# EAGLE library part EN5330 (library IC)
Enpirion Voltage Mode Synchronous Buck PWN DC-DC Converter
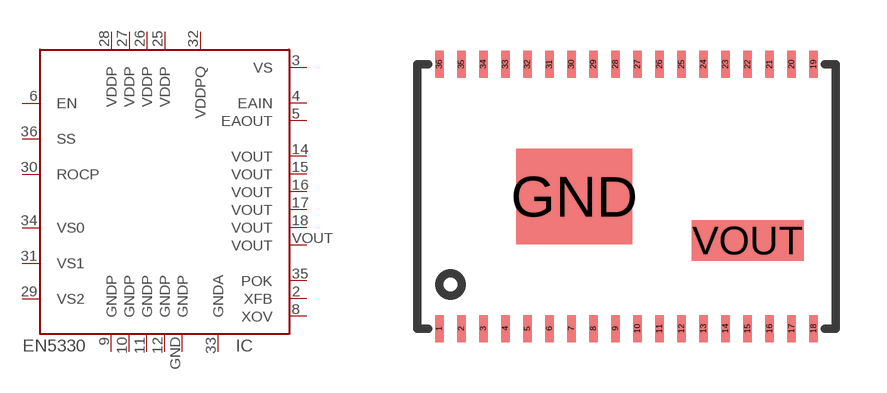
[diagram p53: symbol with the pads of TSSOP36-DD; footprint TSSOP36-DD]

Designator prefix IC

## EN5330-TSSOP36-DD  [TSSOP36-DD]
2  XFB  in
3  VS  pwr
4  EAIN  in
5  EAOUT  in
6  EN  in
8  XOV  in
9  GNDP  pwr
10  GNDP  pwr
11  GNDP  pwr
12  GNDP  pwr
14  VOUT  pwr
15  VOUT  pwr
16  VOUT  pwr
17  VOUT  pwr
18  VOUT  pwr
25  VDDP  pwr
26  VDDP  pwr
27  VDDP  pwr
28  VDDP  pwr
29  VS2  in
30  ROCP  in
31  VS1  in
32  VDDPQ  pwr
33  GNDA  pwr
34  VS0  in
35  POK  in
36  SS  in
GND  GNDP  pwr
VOUT  VOUT  pwr

## Footprint TSSOP36-DD (pad centres in mm)
smd 0.25 x 0.8: 1 -5.525,-3.9; 2 -4.875,-3.9; 3 -4.225,-3.9; 4 -3.575,-3.9; 5 -2.925,-3.9; 6 -2.275,-3.9; 7 -1.625,-3.9; 8 -0.975,-3.9; 9 -0.325,-3.9; 10 0.325,-3.9; 11 0.975,-3.9; 12 1.625,-3.9; 13 2.275,-3.9; 14 2.925,-3.9; 15 3.575,-3.9; 16 4.225,-3.9; 17 4.875,-3.9; 18 5.525,-3.9; 19 5.525,3.9; 20 4.875,3.9; 21 4.225,3.9; 22 3.575,3.9; 23 2.925,3.9; 24 2.275,3.9; 25 1.625,3.9; 26 0.975,3.9; 27 0.325,3.9; 28 -0.325,3.9; 29 -0.975,3.9; 30 -1.625,3.9; 31 -2.275,3.9; 32 -2.925,3.9; 33 -3.575,3.9; 34 -4.225,3.9; 35 -4.875,3.9; 36 -5.525,3.9
smd 3.42 x 2.82: GND -1.54,0
smd 3.3 x 1.2: VOUT 3.575,-1.3